# EAGLE library part POLOLU_HBRIDGE (library PIC32)
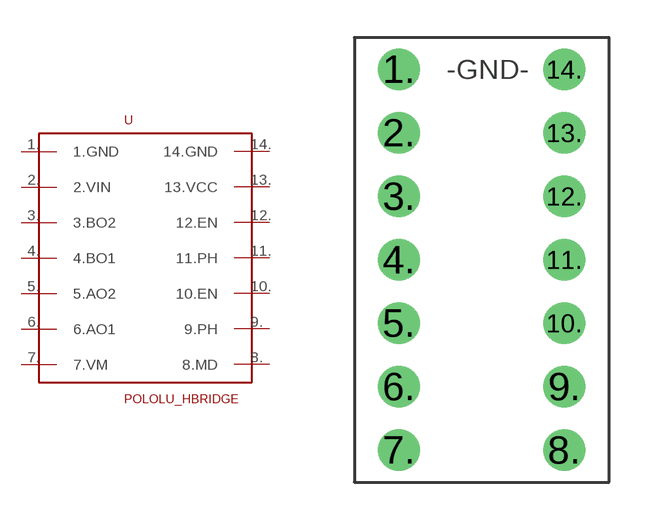
[diagram p8: symbol with the pads of POLOLU_HBRIDGE; footprint POLOLU_HBRIDGE]

Designator prefix -

## POLOLU_HBRIDGE  [POLOLU_HBRIDGE]
1.  1.GND
2.  2.VIN
3.  3.BO2
4.  4.BO1
5.  5.AO2
6.  6.AO1
7.  7.VM
8.  8.MD
9.  9.PH
10.  10.EN
11.  11.PH
12.  12.EN
13.  13.VCC
14.  14.GND

## Footprint POLOLU_HBRIDGE (pad centres in mm)
drill 1.02 pad 1.676: 1. -3.31,7.62; 2. -3.31,5.08; 3. -3.31,2.54; 4. -3.31,0; 5. -3.31,-2.54; 6. -3.31,-5.08; 7. -3.31,-7.62; 8. 3.31,-7.62; 9. 3.31,-5.08; 10. 3.31,-2.54; 11. 3.31,0; 12. 3.31,2.54; 13. 3.31,5.08; 14. 3.31,7.62